# Altium footprint library CHIP.PcbLib: 62 footprints (part 4 of 4)
Each footprint in its own frame and in the unit in brackets; x right, y up, seen from the top. Pads: shape width x height; smd on the part's side, far side on the other; paste and mask are expansions set on the pad; w line width, h text height; cw(c..) or ccw(c..) is an arc to the next point about the centre after c.
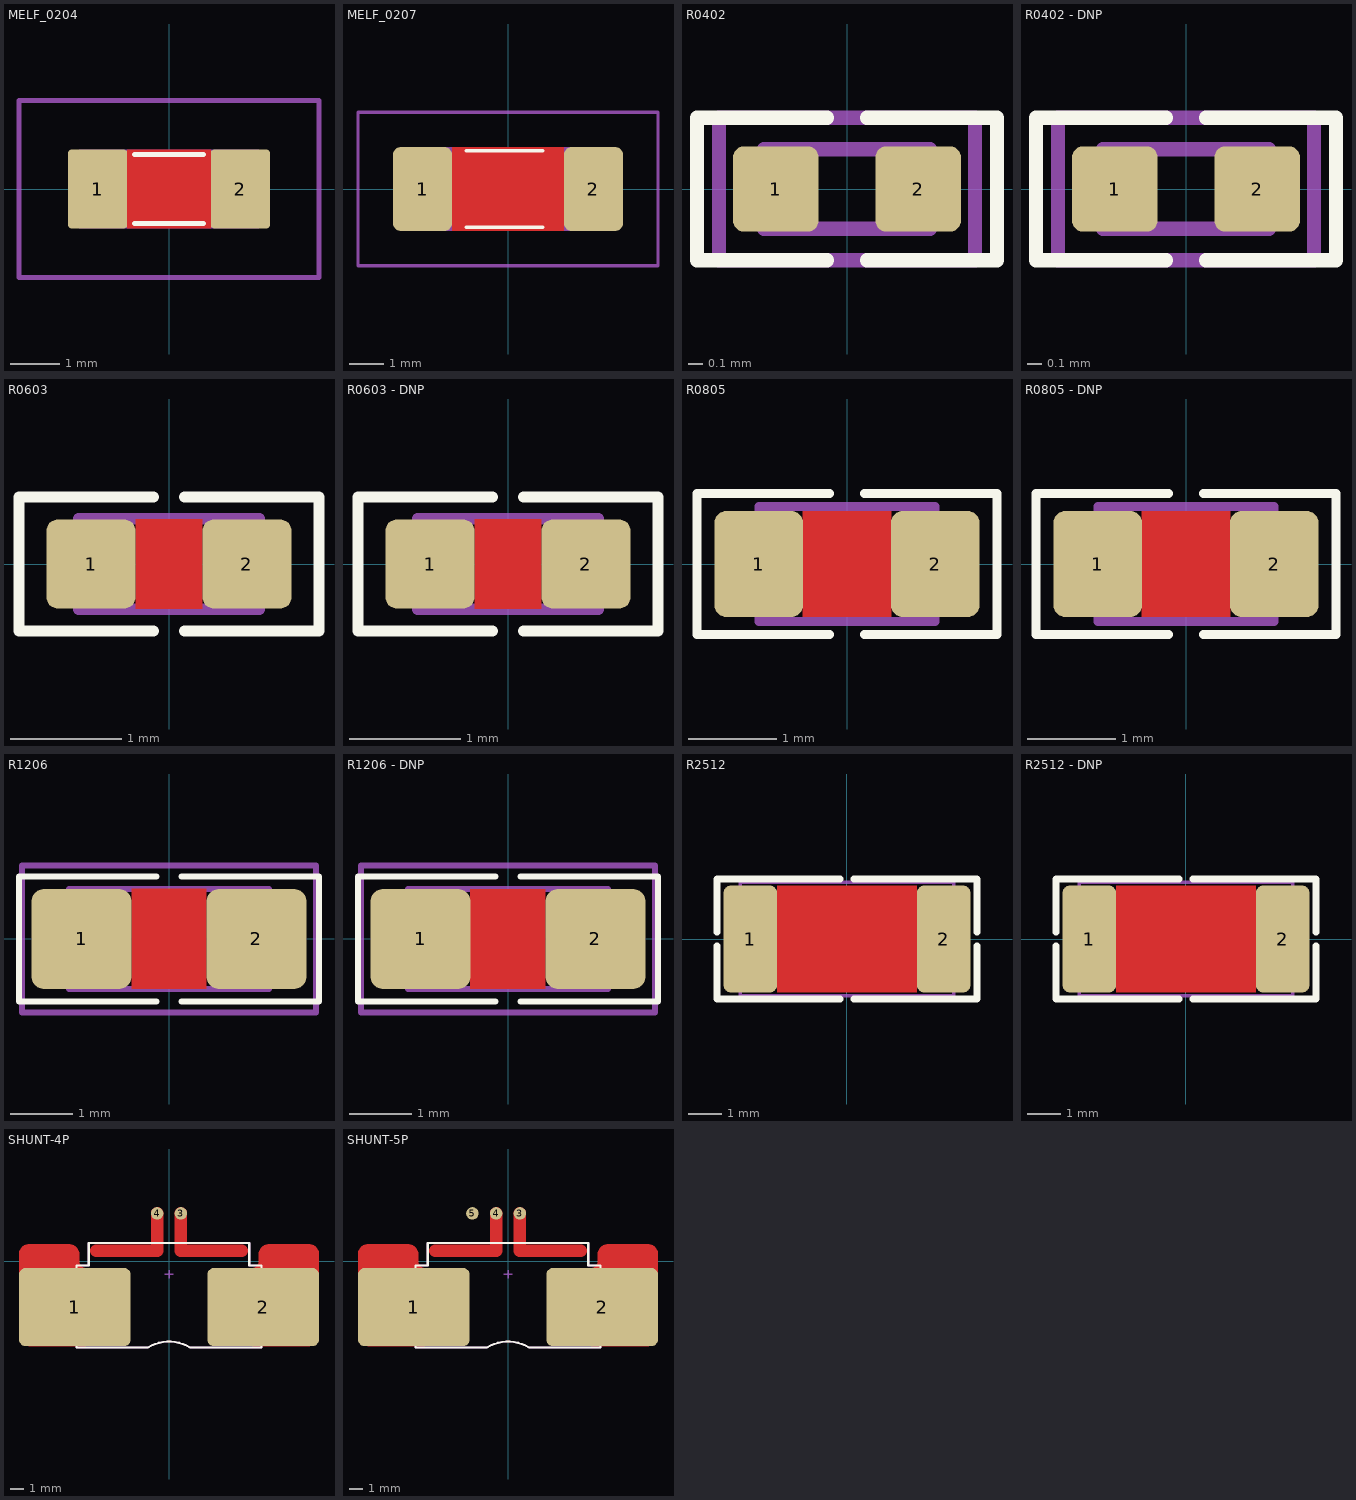
[diagram p3: the footprints below, top view; thin cyan lines are the x and y axes]

## MELF_0204 [mm]
pads (2):
  rrect10% 1.2x1.6 smd: 1(-1.45,0) 2(1.45,0)
Top Layer:
  pour cut-out: -0.85,0.8 0.85,0.8 0.85,-0.8 -0.85,-0.8
Top Overlay:
  lines w0.1: -0.7,-0.7 0.7,-0.7 ; -0.7,0.7 0.7,0.7
Mechanical 15:
  lines w0.1: -3.05,-1.8 3.05,-1.8 3.05,1.8 -3.05,1.8 -3.05,-1.8
Mechanical 29:
  lines w0.2: -1.8,-0.7 -1.8,0.7 1.8,0.7 1.8,-0.7 -1.8,-0.7
  text "'.Designator'" at -0.724,-0.068 h0.3
3D body "MMA02040C2708FB300.stp": height 1.4, standoff 0, extent -1.8,-0.7 1.8,0.7

## MELF_0207 [mm]
pads (2):
  rrect25% 1.7x2.4 smd: 1(-2.45,0) 2(2.45,0)
Top Layer:
  pour cut-out: -1.6,1.2 1.6,1.2 1.6,-1.2 -1.6,-1.2
Top Overlay:
  lines w0.1: -1.2,-1.1 1,-1.1 ; -1.2,1.1 1,1.1
Mechanical 15:
  lines w0.1: -4.3,-2.2 4.3,-2.2 4.3,2.2 -4.3,2.2 -4.3,-2.2
Mechanical 29:
  lines w0.2: -2.9,-1.1 2.9,-1.1 2.9,1.1 -2.9,1.1 -2.9,-1.1
  text "'.Designator'" at -1.229,-0.115 h0.51
3D body "MMB 0207.stp": height 2.2, standoff 0, extent -2.9,-1.1 2.9,1.1

## R0402 [mm] "CHIP Resistor, 1.0X0.5mm, 0402"
height 0.4
pads (2):
  rrect25% 0.6x0.6 smd mask+0.075: 1(-0.5,0) 2(0.5,0)
Top Overlay:
  lines w0.1: -0.14,-0.5 -1.054,-0.5 -1.054,0.5 -0.14,0.5 ; 0.14,-0.5 1.054,-0.5 1.054,0.5 0.14,0.5
Mechanical 15:
  lines w0.1: -0.9,-0.5 -0.9,0.5 0.9,0.5 0.9,-0.5 -0.9,-0.5
Mechanical 29:
  lines w0.1: -0.584,-0.279 0.584,-0.279 0.584,0.279 -0.584,0.279 -0.584,-0.279
  text "'.Designator'" at -0.615,-0.079 h0.25
3D body "User Library-RES_1005-0402.step": height 0.41, standoff 0, extent -0.575,-0.275 0.575,0.275

## R0402 - DNP [mm] "CHIP Resistor, 1.0X0.5mm, 0402"
height 0.4
pads (2):
  rrect25% 0.6x0.6 smd mask+0.075: 1(-0.5,0) 2(0.5,0)
Top Overlay:
  lines w0.1: -0.14,-0.5 -1.054,-0.5 -1.054,0.5 -0.14,0.5 ; 0.14,-0.5 1.054,-0.5 1.054,0.5 0.14,0.5
Mechanical 15:
  lines w0.1: -0.9,-0.5 -0.9,0.5 0.9,0.5 0.9,-0.5 -0.9,-0.5
Mechanical 29:
  lines w0.1: -0.584,-0.279 0.584,-0.279 0.584,0.279 -0.584,0.279 -0.584,-0.279

## R0603 [mm] "CHIP Resistor 1/10 WATT, 1.6x0.8mm, 0603, OPTIMIZED"
height 0.6
pads (2):
  rrect25% 0.8x0.8 smd mask+0.075: 1(-0.7,0) 2(0.7,0)
Top Layer:
  pour cut-out: -0.3,0.4 0.3,0.4 0.3,-0.4 -0.3,-0.4
Top Overlay:
  lines w0.1: -0.14,-0.6 -1.346,-0.6 -1.346,0.6 -0.14,0.6 ; 0.14,-0.6 1.346,-0.6 1.346,0.6 0.14,0.6
Mechanical 29:
  lines w0.1: -0.813,-0.406 0.813,-0.406 0.813,0.406 -0.813,0.406 -0.813,-0.406
  text "'.Designator'" at -0.737,-0.095 h0.3
3D body "User Library-RES_1609-0603.step": height 0.56, standoff 0, extent -0.85,-0.4 0.85,0.4

## R0603 - DNP [mm] "CHIP Resistor 1/10 WATT, 1.6x0.8mm, 0603, OPTIMIZED"
height 0.6
pads (2):
  rrect25% 0.8x0.8 smd mask+0.075: 1(-0.7,0) 2(0.7,0)
Top Layer:
  pour cut-out: -0.3,0.4 0.3,0.4 0.3,-0.4 -0.3,-0.4
Top Overlay:
  lines w0.1: -0.14,-0.6 -1.346,-0.6 -1.346,0.6 -0.14,0.6 ; 0.14,-0.6 1.346,-0.6 1.346,0.6 0.14,0.6
Mechanical 29:
  lines w0.1: -0.813,-0.406 0.813,-0.406 0.813,0.406 -0.813,0.406 -0.813,-0.406

## R0805 [mm] "CHIP RESISTOR 1/8 WATT ,2.0X1.3mm, 0805, 2012"
pads (2):
  rrect25% 1x1.2 smd mask+0.05: 1(-1,0) 2(1,0)
Top Layer:
  pour cut-out: -0.5,0.6 0.5,0.6 0.5,-0.6 -0.5,-0.6
Top Overlay:
  lines w0.1: -0.2,-0.8 -1.7,-0.8 -1.7,0.8 -0.2,0.8 ; 0.2,-0.8 1.7,-0.8 1.7,0.8 0.2,0.8
Mechanical 13:
  lines w0.1: -1,-0.65 -1,0.65 1,0.65 1,-0.65 -1,-0.65
Mechanical 29:
  lines w0.1: -1,-0.65 1,-0.65 1,0.65 -1,0.65 -1,-0.65
  text "'.Designator'" at -0.916,-0.119 h0.38
3D body "User Library-RES_2013-0805.step": height 0.76, standoff 0, extent -1.15,-0.675 1.15,0.675

## R0805 - DNP [mm] "CHIP RESISTOR 1/8 WATT ,2.0X1.3mm, 0805, 2012"
pads (2):
  rrect25% 1x1.2 smd mask+0.05: 1(-1,0) 2(1,0)
Top Layer:
  pour cut-out: -0.5,0.6 0.5,0.6 0.5,-0.6 -0.5,-0.6
Top Overlay:
  lines w0.1: -0.2,-0.8 -1.7,-0.8 -1.7,0.8 -0.2,0.8 ; 0.2,-0.8 1.7,-0.8 1.7,0.8 0.2,0.8
Mechanical 13:
  lines w0.1: -1,-0.65 1,-0.65 1,0.65 -1,0.65 -1,-0.65
Mechanical 29:
  lines w0.1: -1,-0.65 -1,0.65 1,0.65 1,-0.65 -1,-0.65

## R1206 [mm] "CHIP RESISTOR 1/4 WATT, Body 3.2x1.6mm,1206, 3216"
height 2
pads (2):
  rrect25% 1.6x1.6 smd mask+0.075: 1(-1.4,0) 2(1.4,0)
Top Layer:
  pour cut-out: -0.6,0.8 -0.6,-0.8 0.6,-0.8 0.6,0.8
Top Overlay:
  lines w0.1: -0.2,-1 -2.4,-1 -2.4,1 -0.2,1 ; 0.2,-1 2.4,-1 2.4,1 0.2,1
Mechanical 13:
  lines w0.1: -1.6,-0.8 -1.6,0.8 1.6,0.8 1.6,-0.8 -1.6,-0.8
Mechanical 15:
  lines w0.1: -0.5,0 0.5,0 ; 0,-0.5 0,0.5 ; -2.35,-1.175 -2.35,1.175 2.35,1.175 2.35,-1.175 -2.35,-1.175
Mechanical 29:
  lines w0.1: -1.6,-0.8 1.6,-0.8 1.6,0.8 -1.6,0.8 -1.6,-0.8
  text "'.Designator'" at -1.229,-0.115 h0.51
3D body "User Library-RES_3216-1206.step": height 0.85, standoff 0, extent -1.675,-0.865 1.675,0.865

## R1206 - DNP [mm] "CHIP RESISTOR 1/4 WATT, Body 3.2x1.6mm,1206, 3216"
height 2
pads (2):
  rrect25% 1.6x1.6 smd mask+0.075: 1(-1.4,0) 2(1.4,0)
Top Layer:
  pour cut-out: -0.6,0.8 -0.6,-0.8 0.6,-0.8 0.6,0.8
Top Overlay:
  lines w0.1: -0.2,-1 -2.4,-1 -2.4,1 -0.2,1 ; 0.2,-1 2.4,-1 2.4,1 0.2,1
Mechanical 13:
  lines w0.1: -1.6,-0.8 -1.6,0.8 1.6,0.8 1.6,-0.8 -1.6,-0.8
Mechanical 15:
  lines w0.1: -0.5,0 0.5,0 ; 0,-0.5 0,0.5 ; -2.35,-1.175 -2.35,1.175 2.35,1.175 2.35,-1.175 -2.35,-1.175
Mechanical 29:
  lines w0.1: -1.6,-0.8 1.6,-0.8 1.6,0.8 -1.6,0.8 -1.6,-0.8

## R2512 [mm] "CHIP RESISTOR 1 WATT, 6.4X3.2mm, 2512, 6432"
height 1
pads (2):
  rrect25% 1.6x3.2 smd: 1(-2.9,0) 2(2.9,0)
Top Layer:
  pour cut-out: -2.1,1.6 2.1,1.6 2.1,-1.6 -2.1,-1.6
Top Overlay:
  lines w0.2: -3.9,-0.2 -3.9,-1.8 -0.2,-1.8 ; -3.9,0.2 -3.9,1.8 -0.2,1.8 ; 0.2,-1.8 3.9,-1.8 3.9,-0.2 ; 0.2,1.8 3.9,1.8 3.9,0.2
Mechanical 13:
  lines w0.1: -3.2,-1.7 -3.2,1.7 3.2,1.7 3.2,-1.7 -3.2,-1.7
Mechanical 29:
  lines w0.1: -3.2,-1.7 -3.2,1.7 3.2,1.7 3.2,-1.7 -3.2,-1.7
  text "'.Designator'" at -1.84,-0.172 h0.76
3D body "User Library-2512 SMD Resistor.step": height 1.6, standoff 0, extent -3.175,-1.5 3.175,1.5

## R2512 - DNP [mm] "CHIP RESISTOR 1 WATT, 6.4X3.2mm, 2512, 6432"
height 1
pads (2):
  rrect25% 1.6x3.2 smd: 1(-2.9,0) 2(2.9,0)
Top Layer:
  pour cut-out: -2.1,1.6 2.1,1.6 2.1,-1.6 -2.1,-1.6
Top Overlay:
  lines w0.2: -3.9,-0.2 -3.9,-1.8 -0.2,-1.8 ; -3.9,0.2 -3.9,1.8 -0.2,1.8 ; 0.2,-1.8 3.9,-1.8 3.9,-0.2 ; 0.2,1.8 3.9,1.8 3.9,0.2
Mechanical 29:
  lines w0.1: -3.2,-1.7 -3.2,1.7 3.2,1.7 3.2,-1.7 -3.2,-1.7

## SHUNT-4P [mm]
pads (8):
  rrect16% 8x5.6 smd paste-5 mask-5: 1(-6.75,-3.275) 2(6.75,-3.275)
  round 0.9 smd: 3(0.85,3.438) 4(-0.85,3.438)
  rrect25% 3.7x5.6 on Top Paste paste-5 mask-5: ""(-4.6,-3.275) ""(4.6,-3.275)
  rrect25% 3.7x5.6 on Top Solder paste-5 mask-5: ""(-4.6,-3.275) ""(4.6,-3.275)
Top Layer:
  region: 10.75,-5.4 10.75,0.5 10.751,0.57 10.726,0.708 10.675,0.838 10.6,0.956 10.503,1.057 10.388,1.138 10.259,1.194 10.122,1.224 10.052,1.225 10,1.225 7.15,1.225 7.081,1.225 6.946,1.199 6.819,1.147 6.705,1.072 6.607,0.975 6.531,0.861 6.478,0.735 6.45,0.6 6.45,0.532 6.45,0.5 6.45,0 6.441,-0.094 6.369,-0.268 6.236,-0.401 6.063,-0.473 5.969,-0.483 6,-0.5 6,-6.075 10,-6.075 10.071,-6.078 10.212,-6.055 10.345,-6.006 10.467,-5.931 10.571,-5.834 10.655,-5.718 10.714,-5.589 10.747,-5.45 10.75,-5.379
  region: -10.75,-5.4 -10.75,0.5 -10.751,0.57 -10.727,0.708 -10.676,0.838 -10.6,0.956 -10.503,1.057 -10.388,1.138 -10.259,1.194 -10.123,1.224 -10.053,1.225 -10,1.225 -7.15,1.225 -7.081,1.225 -6.947,1.199 -6.82,1.147 -6.705,1.072 -6.608,0.975 -6.531,0.861 -6.478,0.735 -6.45,0.6 -6.45,0.532 -6.45,0.5 -6.45,0 -6.441,-0.094 -6.369,-0.268 -6.237,-0.401 -6.063,-0.473 -5.969,-0.483 -6,-0.5 -6,-6.075 -10,-6.075 -10.07,-6.079 -10.209,-6.059 -10.342,-6.012 -10.463,-5.94 -10.567,-5.846 -10.651,-5.733 -10.712,-5.606 -10.746,-5.47
  lines w0.9: -5.2,0.775 -0.85,0.775 -0.85,3.438 ; 0.85,3.438 0.85,0.775 5.2,0.775
Top Overlay:
  lines w0.15: -6.625,-6.175 -6.625,-0.3 -5.75,-0.3 -5.75,1.325 5.75,1.325 5.75,-0.3 6.625,-0.3 6.625,-6.175 1.5,-6.175 ccw(c0,-8.591) -1.5,-6.175 -6.625,-6.175
Top Paste:
  lines w0.9: -5.2,0.775 -3.2,0.775 ; 3.2,0.775 5.2,0.775
Top Solder:
  lines w0.9: -5.2,0.775 -3.2,0.775 ; 3.2,0.775 5.2,0.775
Mechanical 15:
  lines w0.1: -0.3,-0.925 0.3,-0.925 ; 0,-1.225 0,-0.625
Mechanical 29:
  lines w0.15: -6.625,-6.175 -6.625,-0.3 -5.75,-0.3 -5.75,1.325 5.75,1.325 5.75,-0.3 6.625,-0.3 6.625,-6.175 1.5,-6.175 ccw(c0,-8.591) -1.5,-6.175 -6.625,-6.175
  text "'.Designator'" at -2.457,-0.23 h1.02
3D body "CSS4J-4026.stp": height 3.07, standoff 0.01, extent -5.03,-5.475 5.03,1.125

## SHUNT-5P [mm]
pads (9):
  rrect16% 8x5.6 smd paste-5 mask-5: 1(-6.75,-3.275) 2(6.75,-3.275)
  round 0.9 smd: 3(0.85,3.438) 4(-0.85,3.438) 5(-2.55,3.438)
  rrect25% 3.7x5.6 on Top Paste paste-5 mask-5: ""(-4.6,-3.275) ""(4.6,-3.275)
  rrect25% 3.7x5.6 on Top Solder paste-5 mask-5: ""(-4.6,-3.275) ""(4.6,-3.275)
Top Layer:
  region: -10.75,-5.4 -10.75,0.5 -10.751,0.57 -10.727,0.708 -10.676,0.838 -10.6,0.956 -10.503,1.057 -10.388,1.138 -10.259,1.194 -10.123,1.224 -10.053,1.225 -10,1.225 -7.15,1.225 -7.081,1.225 -6.947,1.199 -6.82,1.147 -6.705,1.072 -6.608,0.975 -6.531,0.861 -6.478,0.735 -6.45,0.6 -6.45,0.532 -6.45,0.5 -6.45,0 -6.441,-0.094 -6.369,-0.268 -6.237,-0.401 -6.063,-0.473 -5.969,-0.483 -6,-0.5 -6,-6.075 -10,-6.075 -10.07,-6.079 -10.209,-6.059 -10.342,-6.012 -10.463,-5.94 -10.567,-5.846 -10.651,-5.733 -10.712,-5.606 -10.746,-5.47
  region: 10.75,-5.4 10.75,0.5 10.751,0.57 10.726,0.708 10.675,0.838 10.6,0.956 10.503,1.057 10.388,1.138 10.259,1.194 10.122,1.224 10.052,1.225 10,1.225 7.15,1.225 7.081,1.225 6.946,1.199 6.819,1.147 6.705,1.072 6.607,0.975 6.531,0.861 6.478,0.735 6.45,0.6 6.45,0.532 6.45,0.5 6.45,0 6.441,-0.094 6.369,-0.268 6.236,-0.401 6.063,-0.473 5.969,-0.483 6,-0.5 6,-6.075 10,-6.075 10.071,-6.078 10.212,-6.055 10.345,-6.006 10.467,-5.931 10.571,-5.834 10.655,-5.718 10.714,-5.589 10.747,-5.45 10.75,-5.379
  lines w0.9: -5.2,0.775 -0.85,0.775 -0.85,3.438 ; 0.85,3.438 0.85,0.775 5.2,0.775
Top Overlay:
  lines w0.15: -6.625,-6.175 -1.5,-6.175 cw(c0,-8.591) 1.5,-6.175 6.625,-6.175 6.625,-0.3 5.75,-0.3 5.75,1.325 -5.75,1.325 -5.75,-0.3 -6.625,-0.3 -6.625,-6.175
Top Paste:
  lines w0.9: -5.2,0.775 -3.2,0.775 ; 3.2,0.775 5.2,0.775
Top Solder:
  lines w0.9: -5.2,0.775 -3.2,0.775 ; 3.2,0.775 5.2,0.775
Mechanical 15:
  lines w0.1: -0.3,-0.925 0.3,-0.925 ; 0,-1.225 0,-0.625
Mechanical 29:
  lines w0.15: -6.625,-6.175 -1.5,-6.175 cw(c0,-8.591) 1.5,-6.175 6.625,-6.175 6.625,-0.3 5.75,-0.3 5.75,1.325 -5.75,1.325 -5.75,-0.3 -6.625,-0.3 -6.625,-6.175
  text "'.Designator'" at -2.457,-0.23 h1.02
3D body "CSS4J-4026.stp": height 3.07, standoff 0.01, extent -5.03,-5.475 5.03,1.125